# Altium integrated library Integrated_Library1.IntLib: 2 symbols
Pins are listed as number, name and electrical type; pins without a type are passive.

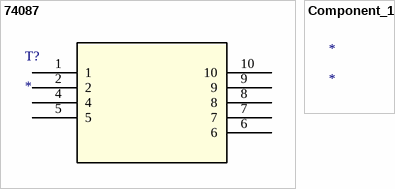
[diagram p0: symbols 74087 to Component_1]

## 74087
designator T?
No Description Available; Mfr_Name: Myrra; RefDes: RefDes; Type: Type
footprint 74087 (Footprint not found)
pins: 1, 2, 4, 5, 6, 7, 8, 9, 10

## Component_1
designator *